# Altium schematic symbol library Amphenol_Library.SchLib: 3 symbols
Pins are listed as number, name and electrical type; pins without a type are passive.

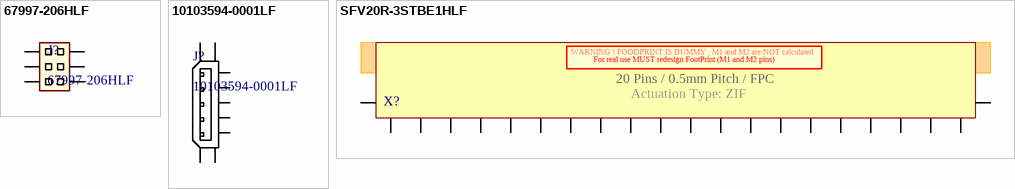
[diagram p0: symbols 67997-206HLF to SFV20R-3STBE1HLF]

## 67997-206HLF
designator J?
6 Positions Header, Unshrouded Connector 0.100" (2.54mm) Through Hole Gold or Gold, GXT™; Manufacturer: Amphenol FCI; Current Rating: 3A; Voltage Rating: 1.5kV; Number of Positions: 6; Insulation Resistance: 5GR; Gender: Male; Connector Type: Male Pin; Mating Post Length: 5.84mm; Row Spacing: 0.1inch; Supplier 1: Mouser; Manufacturer Part Number: 67997-206HLF; Stock 1: 2377; Pricing 1: 1=0.33, 10=0.223, 50=0.223, 100=0.215, 1000=0.154, 10000=0.123 (USD); Mount: Through Hole; Contact Plating: Nickel,Gold,GXT; Contact Material: Bronze; Colour: Black; Housing Colour: Black; Housing Material: Thermoplastic; Min Operating Temperature: -65°C; Max Operating Temperature: 125°C; Number of Rows: 2; Contact Gender: Male; Packaging: Bulk; Package Quantity: 100; Termination: Solder; Max Voltage Rating (AC): 1.5kV; Number of Contacts: 6; Orientation: Straight; Length: 7.62mm; Pitch: 2.54mm; Termination Post Length: 3.05mm; Contact Mating Length: 0.23inch; Depth: 4.83mm; Radiation Hardening: No; Flammability Rating: UL94 V-0; ComponentLink1URL: https://datasheet.ciiva.com/5150/67996-223474-5150000.pdf; ComponentLink1Description: https://datasheet.ciiva.com/5150/67996-223474-5150000.pdf; ComponentLink2URL: https://datasheet.ciiva.com/9474/67996-9474266.pdf; ComponentLink2Description: https://datasheet.ciiva.com/9474/67996-9474266.pdf; ComponentLink3URL: https://datasheet.ciiva.com/728/67996-728908.pdf; ComponentLink3Description: https://datasheet.ciiva.com/728/67996-728908.pdf
footprint Amphenol 2x6 PINS 67997-206HLF
pins: 1, 2, 3, 4, 5, 6

## 10103594-0001LF
designator J?
USB - micro B USB 2.0 Receptacle Connector 5 Position Surface Mount, Right Angle, Horizontal; Manufacturer: Amphenol FCI; Voltage Rating: 100V; Current Rating: 1.8A; Connector Type: USB,Receptacle; Number of Ports: 1; Insulation Resistance: 1GR; Number of Contacts: 5; USB Standard: USB 2.0; Pitch: 0.65mm; Supplier 1: Mouser; Manufacturer Part Number: 10103594-0001LF; Stock 1: 28662; Pricing 1: 1=0.7, 10=0.522, 50=0.522, 100=0.501, 1000=0.359, 10000=0.294 (USD); Mount: Surface Mount,Horizontal; Contact Plating: Nickel,Gold; Contact Material: Copper,Copper Alloy; Number of Terminals: 5; Housing Material: Thermoplastic; Min Operating Temperature: -55°C; Max Operating Temperature: 85°C; Termination: Solder; Orientation: Right Angle; Gender: Receptacle; Packaging: Tape and Reel; Package Quantity: 1500; Max Voltage Rating (AC): 100V; Length: 8.04mm; Radiation Hardening: No; REACH SVHC: No SVHC; Lead Free: Lead Free; ComponentLink1URL: https://datasheet.ciiva.com/8015/10103594-8015248.pdf; ComponentLink1Description: https://datasheet.ciiva.com/8015/10103594-8015248.pdf; ComponentLink2URL: https://datasheet.ciiva.com/11731/0900766b80ed1ae4-11731328.pdf; ComponentLink2Description: https://datasheet.ciiva.com/11731/0900766b80ed1ae4-11731328.pdf; ComponentLink3URL: https://datasheet.ciiva.com/14618/70236822-14618885.pdf; ComponentLink3Description: https://datasheet.ciiva.com/14618/70236822-14618885.pdf; ComponentLink4URL: https://datasheet.ciiva.com/22654/1469075-22654519.pdf; ComponentLink4Description: https://datasheet.ciiva.com/22654/1469075-22654519.pdf; ComponentLink5URL: https://datasheet.ciiva.com/851/10103594-851115.pdf; ComponentLink5Description: https://datasheet.ciiva.com/851/10103594-851115.pdf; ComponentLink6URL: https://datasheet.ciiva.com/5726/10103594-5726971.pdf; ComponentLink6Description: https://datasheet.ciiva.com/5726/10103594-5726971.pdf; ComponentLink7URL: https://datasheet.ciiva.com/851/10103594-851116.pdf; ComponentLink7Description: https://datasheet.ciiva.com/851/10103594-851116.pdf; ComponentLink8URL: https://datasheet.ciiva.com/851/10103594-851117.pdf; ComponentLink8Description: https://datasheet.ciiva.com/851/10103594-851117.pdf
footprint FCI_10103594-0001LF
pins: 1, 2, 3, 4, 5, 6, 7, 8, 9, 10, 11

## SFV20R-3STBE1HLF
designator X?, comment 20pins  (value not drawn)
Conn FPC Connector RCP 20 POS 0.5mm Solder RA SMD T/R; Manufacturer: Amphenol FCI; Manufacturer Part Number: SFV20R-3STBE1HLF; Actuator Material: Glass,Polyphenylene; Current Rating: 500mA; Voltage Rating: 50V; Number of Positions: 20; Contact Location: Bottom; Insulation Resistance: 100MR; Supplier 1: Mouser; Stock 1: 1687; Pricing 1: 1=0.44, 10=0.33, 50=0.33, 100=0.32, 1000=0.23, 10000=0.19 (USD); Mount: Surface Mount; Contact Material: Bronze; Contact Plating: Gold; Housing Material: Polymer; Min Operating Temperature: -55°C; Max Operating Temperature: 105°C; Package Quantity: 3000; Packaging: Tape and Reel; Termination: Solder; Number of Contacts: 20; Orientation: Right Angle; Pitch: 0.5mm; Radiation Hardening: No; Flammability Rating: UL94 V-0; ComponentLink1URL: https://datasheet.ciiva.com/10368/10116954-10368433.pdf; ComponentLink1Description: https://datasheet.ciiva.com/10368/10116954-10368433.pdf; ComponentLink2URL: https://datasheet.ciiva.com/10368/10116954-10368527.pdf; ComponentLink2Description: https://datasheet.ciiva.com/10368/10116954-10368527.pdf
footprint SFV20R-3STBE1HLF - DUMMY (20 Pins FPC (ZIF))
pins: 1, 2, 3, 4, 5, 6, 7, 8, 9, 10, 11, 12, 13, 14, 15, 16, 17, 18, 19, 20, m1, m2
text: WARNING ! FOODPRINT IS DUMMY , M1 and M2 are NOT calculated; For real use MUST redesign FootPrint (M1 and M2 pins); 20 Pins / 0.5mm Pitch / FPC; Actuation Type: ZIF